# EAGLE library part HMC1052L (library User-Submitted)
Honeywell HMC1052L 2-Axis Magnetometer The Honeywell HMC1051Z, HMC1051ZL, HMC1052L and HMC1053 are magnetoresistive sensors designed for low field magnetic sensing. Various packaging options have been created from the basic HMC1052 sensor chip to create 1, 2 and 3-axis magneto-resistive sensors forcost effective and small size solutions. The advantage of the HMC105X family of sensors is in the near-perfectly orthogonal dual sensor on a single chip with shared set/reset and offset coils/straps included. Datasheet <http://www51.honeywell.com/aero/common/documents/myaerospacecatalog-documents/Defense_Brochures-documents/HMC_1051-1052-1053_Data_Sheet.pdf> SparkFun Products Compass Module - HMC1051Z (single axis) <https://www.sparkfun.com/products/11071> (COM-11071) IMU 6DOF v4 Sensor Board <https://www.sparkfun.com/products/8726> (COM-08726) IMU 6 Degrees of Freedom - v4 with Bluetooth Capability <https://www.sparkfun.com/products/8454> (COM-08454)
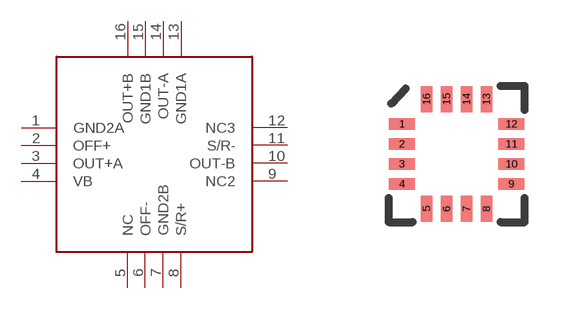
[diagram p3: symbol with the pads of 16LPCC; footprint 16LPCC]

Designator prefix -

## HMC1052L (PROD_ID: IC-08228; SF_ID: COM-00708)  [16LPCC]
1  GND2A
2  OFF+
3  OUT+A
4  VB
5  NC
6  OFF-
7  GND2B
8  S/R+
9  NC2
10  OUT-B
11  S/R-
12  NC3
13  GND1A
14  OUT-A
15  GND1B
16  OUT+B

## Footprint 16LPCC (pad centres in mm)
smd 0.65 x 0.28: 1 -1.37,0.75; 2 -1.37,0.25; 3 -1.37,-0.25; 4 -1.37,-0.75; 9 1.37,-0.75; 10 1.37,-0.25; 11 1.37,0.25; 12 1.37,0.75
smd 0.28 x 0.65: 5 -0.75,-1.37; 6 -0.25,-1.37; 7 0.25,-1.37; 8 0.75,-1.37; 13 0.75,1.37; 14 0.25,1.37; 15 -0.25,1.37; 16 -0.75,1.37